# Altium schematic symbol library RPSLib_Fuses.SchLib: 5 symbols
Pins are listed as number, name and electrical type; pins without a type are passive.

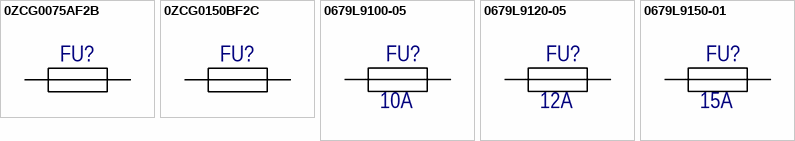
[diagram p0: symbols 0ZCG0075AF2B to 0679L9150-01]

## 0ZCG0075AF2B
designator FU?  (value not drawn)
PTC RESTTBLE 0.75A 24V CHIP 1812; Manufacturer: Bel; Max Current Rating: 40A; Hold Current: 750mA; Trip Current: 1.5A; Time to Trip: 0.2s; РКД Наименование: *; Supplier 1: Digi-Key; Manufacturer Part Number: 0ZCG0075AF2B; Stock 1: 1719; Pricing 1: 1=0.21, 5=0.2, 10=0.191, 50=0.1706, 100=0.1588, 250=0.1411, 500=0.1176 (USD); Case/Package: 1812; Case Code (Metric): 4532; Case Code (Imperial): 1812; Package Quantity: 1; Packaging: Cut Tape; ComponentLink1URL: https://www.belfuse.com/resources/CircuitProtection/datasheets/0ZCG%20Nov2016.pdf?src-supplier=Digi-Key; ComponentLink1Description: https://www.belfuse.com/resources/CircuitProtection/datasheets/0ZCG%20Nov2016.pdf?src-supplier=Digi-Key; Supplier Part Number 1: 507-1764-1-ND
footprint FUSE4632X15N (Chip Fuse, 2-Leads, Body 4,55x3,24mm, IPC Medium Density)
pins: 1, 2

## 0ZCG0150BF2C
designator FU?  (value not drawn)
PTC RESTTBLE 1.50A 24V CHIP 1812; Manufacturer: Bel; Max Current Rating: 100A; Power Dissipation: 1W; Hold Current: 1.5A; Trip Current: 3A; Time to Trip: 1.5s; Approvals: TUV,UL; Supplier 1: Digi-Key; Manufacturer Part Number: 0ZCG0150BF2C; Stock 1: 213519; Pricing 1: 1=0.21, 5=0.2, 10=0.191, 50=0.1706, 100=0.1588, 250=0.14112, 500=0.1176, 1000=0.11172 (USD); Mount: Surface Mount; Case/Package: 1812; Case Code (Metric): 4532; Case Code (Imperial): 1812; Contact Plating: Matte,Tin; Number of Terminals: 2; Min Operating Temperature: -40°C; Max Operating Temperature: 85°C; Package Quantity: 1; Packaging: Tape and Reel; Max Voltage Rating (DC): 24V; Lead Free: Lead Free; Supplier Part Number 1: 507-1773-1-ND; РКД Наименование: *
footprint FUSE4632X15N (Chip Fuse, 2-Leads, Body 4,55x3,24mm, IPC Medium Density)
pins: 1, 2

## 0679L9100-05
designator FU?  Current Rating: 10A  (hidden comment: 0679L9100-05)
FUSE BRD MNT 10A 125VAC/VDC; Manufacturer: Bel; Fuse Type: Board Mount (Cartridge Style Excluded); Voltage Rating (AC): 125V; DC Cold Resistance: 6.6mR; Approvals: cURus; Supplier 1: Digi-Key; Manufacturer Part Number: 0679L9100-05; RoHS: Yes; Category: Fuses; Stock 1: 2626; Pricing 1: 1=0,39000, 5=0,38000, 10=0,36700, 50=0,30920, 100=0,25660, 250=0,23332, 500=0,19832, 1000=0,17498 (USD); Mount: Surface Mount; Case/Package: 2410; Case Code (Imperial): 2410; Case Code (Metric): 6125; Min Operating Temperature: -55°C; Max Operating Temperature: 125°C; Packaging: Tape and Reel; Voltage Rating (DC): 125V; Length: 0.24inch; Height: 0.11inch; Width: 0.1inch; ComponentLink1URL: http://www.belfuse.com/resources/CircuitProtection/datasheets/0679L%20Sep2016.pdf?src-supplier=Digi-Key; ComponentLink1Description: http://www.belfuse.com/resources/CircuitProtection/datasheets/0679L%20Sep2016.pdf?src-supplier=Digi-Key; ComponentLink2URL: https://www.belfuse.com/resources/CircuitProtection/datasheets/0679L%20Sep2016.pdf?src-supplier=Digi-Key; ComponentLink2Description: https://www.belfuse.com/resources/CircuitProtection/datasheets/0679L%20Sep2016.pdf?src-supplier=Digi-Key; Supplier Part Number 1: 507-1998-1-ND
footprint 0679L BelFuse
pins: 1, 2

## 0679L9120-05
designator FU?  Current Rating: 12A  (hidden comment: 0679L9120-05)
FUSE BRD MNT 12A 125VAC/VDC; Manufacturer: Bel; Voltage Rating (AC): 125V; DC Cold Resistance: 5.6mR; Fuse Type: Board Mount (Cartridge Style Excluded); Approvals: cURus; Supplier 1: Digi-Key; Manufacturer Part Number: 0679L9120-05; RoHS: Yes; Category: Fuses; Stock 1: 7733; Pricing 1: 1=0,39000, 5=0,38000, 10=0,36700, 50=0,30920, 100=0,25660, 250=0,23332, 500=0,19832, 1000=0,17498 (USD); Mount: Surface Mount; Case/Package: 2410; Case Code (Metric): 6125; Case Code (Imperial): 2410; Min Operating Temperature: -55°C; Max Operating Temperature: 125°C; Packaging: Tape and Reel; Voltage Rating (DC): 125V; Length: 0.24inch; Height: 0.11inch; Width: 0.1inch; ComponentLink1URL: http://www.belfuse.com/resources/CircuitProtection/datasheets/0679L%20Sep2016.pdf?src-supplier=Digi-Key; ComponentLink1Description: http://www.belfuse.com/resources/CircuitProtection/datasheets/0679L%20Sep2016.pdf?src-supplier=Digi-Key; ComponentLink2URL: https://www.belfuse.com/resources/CircuitProtection/datasheets/0679L%20Sep2016.pdf?src-supplier=Digi-Key; ComponentLink2Description: https://www.belfuse.com/resources/CircuitProtection/datasheets/0679L%20Sep2016.pdf?src-supplier=Digi-Key; Supplier Part Number 1: 507-1999-1-ND
footprint 0679L BelFuse
pins: 1, 2

## 0679L9150-01
designator FU?  Current Rating: 15A  (hidden comment: 0679L9150-01)
Fuse Chip Fast Acting 15A 125V Solder Pad SMD 2410 Ceramic T/R; Manufacturer: Bel; DC Cold Resistance: 3.8mR; Fuse Type: Board Mount (Cartridge Style Excluded); Approvals: cURus; Supplier 1: Digi-Key; Manufacturer Part Number: 0679L9150-01; RoHS: Yes; Category: Fuses; Stock 1: 2294; Pricing 1: 1=0,48000, 5=0,47000, 10=0,45500, 50=0,38260, 100=0,31760, 250=0,28876, 500=0,24544 (USD); Mount: Surface Mount; Case/Package: 2410; Case Code (Metric): 6125; Case Code (Imperial): 2410; Min Operating Temperature: -55°C; Max Operating Temperature: 125°C; Packaging: Tape and Reel; Voltage Rating (AC): 125V; Voltage Rating (DC): 125V; Length: 0.24inch; Height: 0.11inch; Width: 0.1inch; ComponentLink1URL: http://www.belfuse.com/resources/CircuitProtection/datasheets/0679L%20Sep2016.pdf?src-supplier=Digi-Key; ComponentLink1Description: http://www.belfuse.com/resources/CircuitProtection/datasheets/0679L%20Sep2016.pdf?src-supplier=Digi-Key; ComponentLink2URL: https://www.belfuse.com/resources/CircuitProtection/datasheets/0679L%20Sep2016.pdf?src-supplier=Digi-Key; ComponentLink2Description: https://www.belfuse.com/resources/CircuitProtection/datasheets/0679L%20Sep2016.pdf?src-supplier=Digi-Key; Supplier Part Number 1: 507-1979-1-ND
footprint 0679L BelFuse
pins: 1, 2